# Altium integrated library Altera Classic EPLD.IntLib: 71 symbols (part 1 of 2)
Pins are listed as number, name and electrical type; pins without a type are passive.

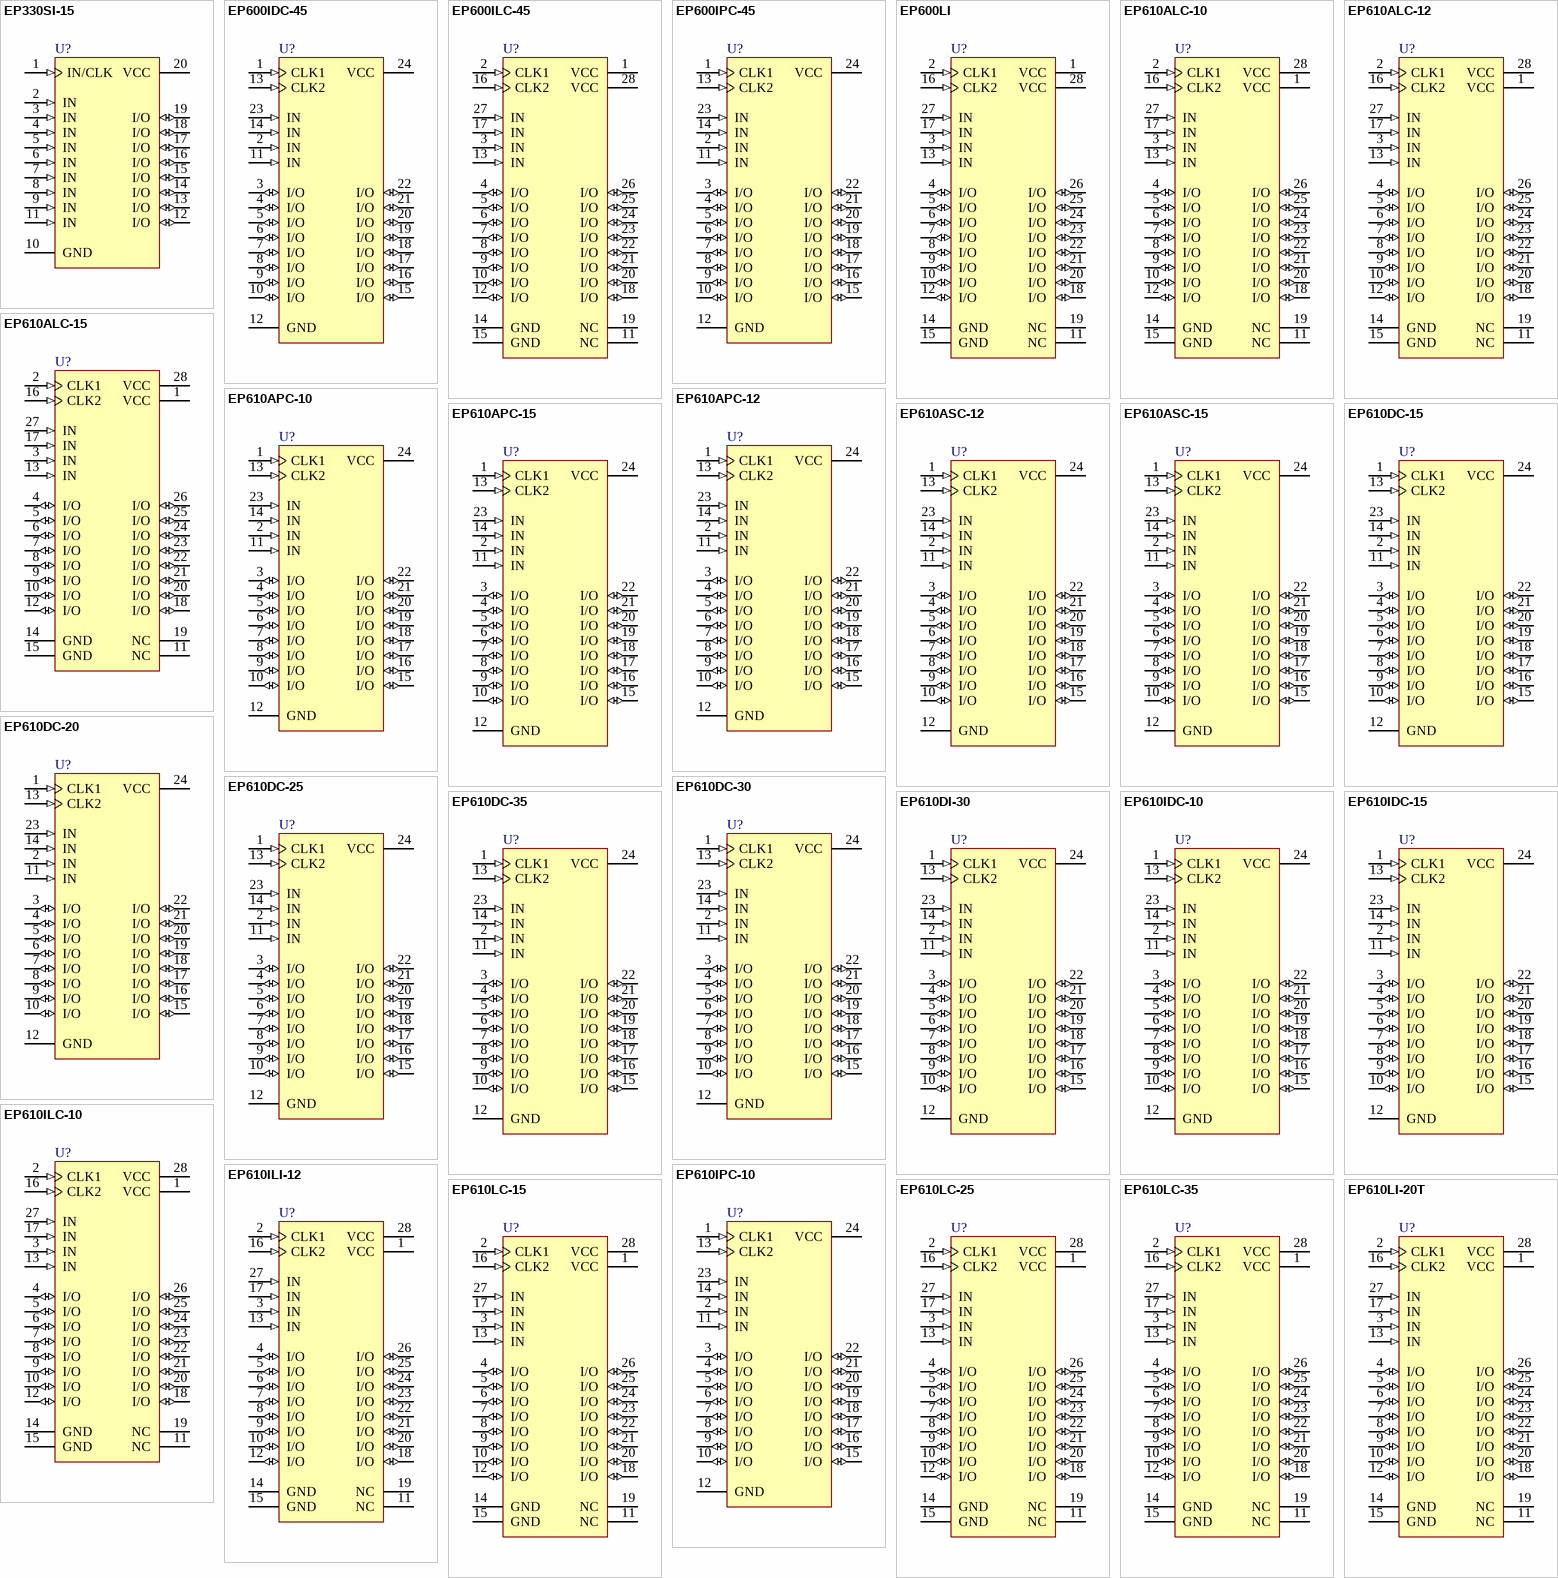
[diagram p0: symbols EP330SI-15 to EP610LI-20T]

## EP330SI-15
designator U?
EP330 5.0V Classic EPLD, 8-Macrocells, 20-Pin SOIC, Speed Grade 15, Industrial Grade; Published: 24-Nov-2000; LatestRevisionDate: 13-Apr-2006; LatestRevisionNote: IPC-7351 Footprint Added.; DatasheetVersion: Sep-1991; PackageVersion: ver6, Jun-1996; PackageReference: SOIC20; Publisher: Altium Limited; PackageDescription: 20-Pin Small Outline Integrated Circuit (SOIC20); Code_JEDEC: MS-013-AC; Code_IPC: SOIC127P1030-20; ComponentLink1Description: Manufacturer Link; ComponentLink1URL: http://www.altera.com/products/devices/classic/cls-index.html
footprint SOIC20_N (SOIC, 20-Leads, Body 12.8x7.5mm, Pitch 1.27mm, IPC Medium Density)
footprint SOIC20_L (SOIC, 20-Leads, Body 12.8x7.5mm, Pitch 1.27mm, IPC High Density)
footprint SOIC20_M (SOIC, 20-Leads, Body 12.8x7.5mm, Pitch 1.27mm, IPC Low Density)
3D model SOIC20 (20-Pin Small Outline Integrated Circuit (SOIC20))
pins: 1 IN/CLK (in), 2 IN (in), 3 IN (in), 4 IN (in), 5 IN (in), 6 IN (in), 7 IN (in), 8 IN (in), 9 IN (in), 10 GND (power), 11 IN (in), 12 I/O (io), 13 I/O (io), 14 I/O (io), 15 I/O (io), 16 I/O (io), 17 I/O (io), 18 I/O (io), 19 I/O (io), 20 VCC (power)

## EP600IDC-45
designator U?
EP600I 5.0V Classic EPLD, 16-Macrocells, 24-Pin CerDIP, Speed Grade 45, Commercial Grade; Published: 24-Nov-2000; LatestRevisionDate: 04-Mar-2005; LatestRevisionNote: Stylized 3D Model Added.; DatasheetVersion: Mar-1995; PackageVersion: ver14.2, Oct-2005; PackageReference: CerDIP24; Publisher: Altium Limited; PackageDescription: 24-Pin Ceramic Dual In-Line Package (CerDIP); Code_JEDEC: MS-030-AF; ComponentLink1Description: Manufacturer Link; ComponentLink1URL: http://www.altera.com/products/devices/classic/cls-index.html
footprint CerDIP24 (DIP, 24-Leads, Row Spacing 7.62mm, Pitch 2.54mm, Body 32x7.49mm)
3D model PDIP24 (24-Pin Ceramic Dual In-Line Package (CerDIP))
pins: 1 CLK1 (in), 2 IN (in), 3 I/O (io), 4 I/O (io), 5 I/O (io), 6 I/O (io), 7 I/O (io), 8 I/O (io), 9 I/O (io), 10 I/O (io), 11 IN (in), 12 GND (power), 13 CLK2 (in), 14 IN (in), 15 I/O (io), 16 I/O (io), 17 I/O (io), 18 I/O (io), 19 I/O (io), 20 I/O (io), 21 I/O (io), 22 I/O (io), 23 IN (in), 24 VCC (power)

## EP600ILC-45
designator U?
EP600I 5.0V Classic EPLD, 16-Macrocells, 28-Pin PLCC, Speed Grade 45, Commercial Grade; Published: 24-Nov-2000; LatestRevisionDate: 13-Apr-2006; LatestRevisionNote: IPC-7351 Footprint Added.; DatasheetVersion: Mar-1995; PackageVersion: ver14.2, Oct-2005; PackageReference: PLCC28; Publisher: Altium Limited; PackageDescription: 28-Pin Plastic J-Lead Chip Carrier (PLCC28); Code_JEDEC: MS-018-AB; ComponentLink1Description: Manufacturer Link; ComponentLink1URL: http://www.altera.com/products/devices/classic/cls-index.html
footprint PLCC28_N (Leaded Chip Carrier, 28-Leads, Body 11.5x11.5mm, Pitch 1.27mm, IPC Medium Density)
footprint PLCC28_L (Leaded Chip Carrier, 28-Leads, Body 11.5x11.5mm, Pitch 1.27mm, IPC High Density)
footprint PLCC28_M (Leaded Chip Carrier, 28-Leads, Body 11.5x11.5mm, Pitch 1.27mm, IPC Low Density)
3D model EP600I-PLCC28 (28-Pin Plastic J-Lead Chip Carrier (PLCC28))
pins: 1 VCC (power), 2 CLK1 (in), 3 IN (in), 4 I/O (io), 5 I/O (io), 6 I/O (io), 7 I/O (io), 8 I/O (io), 9 I/O (io), 10 I/O (io), 11 NC, 12 I/O (io), 13 IN (in), 14 GND (power), 15 GND (power), 16 CLK2 (in), 17 IN (in), 18 I/O (io), 19 NC, 20 I/O (io), 21 I/O (io), 22 I/O (io), 23 I/O (io), 24 I/O (io), 25 I/O (io), 26 I/O (io), 27 IN (in), 28 VCC (power)

## EP600IPC-45
designator U?
EP600I 5.0V Classic EPLD, 16-Macrocells, 24-Pin PDIP, Speed Grade 45, Commercial Grade; Published: 24-Nov-2000; LatestRevisionDate: 04-Mar-2005; LatestRevisionNote: Stylized 3D Model Added.; DatasheetVersion: Mar-1995; PackageVersion: ver14.2, Oct-2005; PackageReference: PDIP24; Publisher: Altium Limited; PackageDescription: 24-Pin Plastic Dual In-Line Package (PDIP); Code_JEDEC: MS-001-AF; ComponentLink1Description: Manufacturer Link; ComponentLink1URL: http://www.altera.com/products/devices/classic/cls-index.html
footprint PDIP24 (DIP, 24-Leads, Row Spacing 7.62mm, Pitch 2.54mm, Body 30.21x6.54mm)
3D model PDIP24 (24-Pin Plastic Dual In-Line Package (PDIP))
pins: 1 CLK1 (in), 2 IN (in), 3 I/O (io), 4 I/O (io), 5 I/O (io), 6 I/O (io), 7 I/O (io), 8 I/O (io), 9 I/O (io), 10 I/O (io), 11 IN (in), 12 GND (power), 13 CLK2 (in), 14 IN (in), 15 I/O (io), 16 I/O (io), 17 I/O (io), 18 I/O (io), 19 I/O (io), 20 I/O (io), 21 I/O (io), 22 I/O (io), 23 IN (in), 24 VCC (power)

## EP600LI
designator U?
EP600 5.0V Classic EPLD, 16-Macrocells, 28-Pin PLCC, Speed Grade Standard, Industrial Grade; Published: 24-Nov-2000; LatestRevisionDate: 13-Apr-2006; LatestRevisionNote: IPC-7351 Footprint Added.; DatasheetVersion: Sep-1988; PackageVersion: ver14.2, Oct-2005; PackageReference: PLCC28; Publisher: Altium Limited; PackageDescription: 28-Pin Plastic J-Lead Chip Carrier (PLCC28); Code_JEDEC: MS-018-AB; ComponentLink1Description: Manufacturer Link; ComponentLink1URL: http://www.altera.com/products/devices/classic/cls-index.html
footprint PLCC28_N (Leaded Chip Carrier, 28-Leads, Body 11.5x11.5mm, Pitch 1.27mm, IPC Medium Density)
footprint PLCC28_L (Leaded Chip Carrier, 28-Leads, Body 11.5x11.5mm, Pitch 1.27mm, IPC High Density)
footprint PLCC28_M (Leaded Chip Carrier, 28-Leads, Body 11.5x11.5mm, Pitch 1.27mm, IPC Low Density)
3D model EP600-PLCC28 (28-Pin Plastic J-Lead Chip Carrier (PLCC28))
pins: 1 VCC (power), 2 CLK1 (in), 3 IN (in), 4 I/O (io), 5 I/O (io), 6 I/O (io), 7 I/O (io), 8 I/O (io), 9 I/O (io), 10 I/O (io), 11 NC, 12 I/O (io), 13 IN (in), 14 GND (power), 15 GND (power), 16 CLK2 (in), 17 IN (in), 18 I/O (io), 19 NC, 20 I/O (io), 21 I/O (io), 22 I/O (io), 23 I/O (io), 24 I/O (io), 25 I/O (io), 26 I/O (io), 27 IN (in), 28 VCC (power)

## EP610ALC-10
designator U?
EP610A 5.0V Classic EPLD, 16-Macrocells, 28-Pin PLCC, Speed Grade 10, Commercial Grade; Published: 24-Nov-2000; LatestRevisionDate: 13-Apr-2006; LatestRevisionNote: IPC-7351 Footprint Added.; DatasheetVersion: Mar-1993; PackageVersion: ver14.2, Oct-2005; PackageReference: PLCC28; Publisher: Altium Limited; PackageDescription: 28-Pin Plastic J-Lead Chip Carrier (PLCC28); Code_JEDEC: MS-018-AB; ComponentLink1Description: Manufacturer Link; ComponentLink1URL: http://www.altera.com/products/devices/classic/cls-index.html
footprint PLCC28_N (Leaded Chip Carrier, 28-Leads, Body 11.5x11.5mm, Pitch 1.27mm, IPC Medium Density)
footprint PLCC28_L (Leaded Chip Carrier, 28-Leads, Body 11.5x11.5mm, Pitch 1.27mm, IPC High Density)
footprint PLCC28_M (Leaded Chip Carrier, 28-Leads, Body 11.5x11.5mm, Pitch 1.27mm, IPC Low Density)
3D model EP610A-PLCC28 (28-Pin Plastic J-Lead Chip Carrier (PLCC28))
pins: 1 VCC (power), 2 CLK1 (in), 3 IN (in), 4 I/O (io), 5 I/O (io), 6 I/O (io), 7 I/O (io), 8 I/O (io), 9 I/O (io), 10 I/O (io), 11 NC, 12 I/O (io), 13 IN (in), 14 GND (power), 15 GND (power), 16 CLK2 (in), 17 IN (in), 18 I/O (io), 19 NC, 20 I/O (io), 21 I/O (io), 22 I/O (io), 23 I/O (io), 24 I/O (io), 25 I/O (io), 26 I/O (io), 27 IN (in), 28 VCC (power)

## EP610ALC-12
designator U?
EP610A 5.0V Classic EPLD, 16-Macrocells, 28-Pin PLCC, Speed Grade 12, Commercial Grade; Published: 24-Nov-2000; LatestRevisionDate: 13-Apr-2006; LatestRevisionNote: IPC-7351 Footprint Added.; DatasheetVersion: Mar-1993; PackageVersion: ver14.2, Oct-2005; PackageReference: PLCC28; Publisher: Altium Limited; PackageDescription: 28-Pin Plastic J-Lead Chip Carrier (PLCC28); Code_JEDEC: MS-018-AB; ComponentLink1Description: Manufacturer Link; ComponentLink1URL: http://www.altera.com/products/devices/classic/cls-index.html
footprint PLCC28_N (Leaded Chip Carrier, 28-Leads, Body 11.5x11.5mm, Pitch 1.27mm, IPC Medium Density)
footprint PLCC28_L (Leaded Chip Carrier, 28-Leads, Body 11.5x11.5mm, Pitch 1.27mm, IPC High Density)
footprint PLCC28_M (Leaded Chip Carrier, 28-Leads, Body 11.5x11.5mm, Pitch 1.27mm, IPC Low Density)
3D model EP610A-PLCC28 (28-Pin Plastic J-Lead Chip Carrier (PLCC28))
pins: 1 VCC (power), 2 CLK1 (in), 3 IN (in), 4 I/O (io), 5 I/O (io), 6 I/O (io), 7 I/O (io), 8 I/O (io), 9 I/O (io), 10 I/O (io), 11 NC, 12 I/O (io), 13 IN (in), 14 GND (power), 15 GND (power), 16 CLK2 (in), 17 IN (in), 18 I/O (io), 19 NC, 20 I/O (io), 21 I/O (io), 22 I/O (io), 23 I/O (io), 24 I/O (io), 25 I/O (io), 26 I/O (io), 27 IN (in), 28 VCC (power)

## EP610ALC-15
designator U?
EP610A 5.0V Classic EPLD, 16-Macrocells, 28-Pin PLCC, Speed Grade 15, Commercial Grade; Published: 24-Nov-2000; LatestRevisionDate: 13-Apr-2006; LatestRevisionNote: IPC-7351 Footprint Added.; DatasheetVersion: Mar-1993; PackageVersion: ver14.2, Oct-2005; PackageReference: PLCC28; Publisher: Altium Limited; PackageDescription: 28-Pin Plastic J-Lead Chip Carrier (PLCC28); Code_JEDEC: MS-018-AB; ComponentLink1Description: Manufacturer Link; ComponentLink1URL: http://www.altera.com/products/devices/classic/cls-index.html
footprint PLCC28_N (Leaded Chip Carrier, 28-Leads, Body 11.5x11.5mm, Pitch 1.27mm, IPC Medium Density)
footprint PLCC28_L (Leaded Chip Carrier, 28-Leads, Body 11.5x11.5mm, Pitch 1.27mm, IPC High Density)
footprint PLCC28_M (Leaded Chip Carrier, 28-Leads, Body 11.5x11.5mm, Pitch 1.27mm, IPC Low Density)
3D model EP610A-PLCC28 (28-Pin Plastic J-Lead Chip Carrier (PLCC28))
pins: 1 VCC (power), 2 CLK1 (in), 3 IN (in), 4 I/O (io), 5 I/O (io), 6 I/O (io), 7 I/O (io), 8 I/O (io), 9 I/O (io), 10 I/O (io), 11 NC, 12 I/O (io), 13 IN (in), 14 GND (power), 15 GND (power), 16 CLK2 (in), 17 IN (in), 18 I/O (io), 19 NC, 20 I/O (io), 21 I/O (io), 22 I/O (io), 23 I/O (io), 24 I/O (io), 25 I/O (io), 26 I/O (io), 27 IN (in), 28 VCC (power)

## EP610APC-10
designator U?
EP610A 5.0V Classic EPLD, 16-Macrocells, 24-Pin PDIP, Speed Grade 10, Commercial Grade; Published: 24-Nov-2000; LatestRevisionDate: 04-Mar-2005; LatestRevisionNote: Stylized 3D Model Added.; DatasheetVersion: Mar-1993; PackageVersion: ver14.2, Oct-2005; PackageReference: PDIP24; Publisher: Altium Limited; PackageDescription: 24-Pin Plastic Dual In-Line Package (PDIP); Code_JEDEC: MS-001-AF; ComponentLink1Description: Manufacturer Link; ComponentLink1URL: http://www.altera.com/products/devices/classic/cls-index.html
footprint PDIP24 (DIP, 24-Leads, Row Spacing 7.62mm, Pitch 2.54mm, Body 30.21x6.54mm)
3D model PDIP24 (24-Pin Plastic Dual In-Line Package (PDIP))
pins: 1 CLK1 (in), 2 IN (in), 3 I/O (io), 4 I/O (io), 5 I/O (io), 6 I/O (io), 7 I/O (io), 8 I/O (io), 9 I/O (io), 10 I/O (io), 11 IN (in), 12 GND (power), 13 CLK2 (in), 14 IN (in), 15 I/O (io), 16 I/O (io), 17 I/O (io), 18 I/O (io), 19 I/O (io), 20 I/O (io), 21 I/O (io), 22 I/O (io), 23 IN (in), 24 VCC (power)

## EP610APC-12
designator U?
EP610A 5.0V Classic EPLD, 16-Macrocells, 24-Pin PDIP, Speed Grade 12, Commercial Grade; Published: 24-Nov-2000; LatestRevisionDate: 04-Mar-2005; LatestRevisionNote: Stylized 3D Model Added.; DatasheetVersion: Mar-1993; PackageVersion: ver14.2, Oct-2005; PackageReference: PDIP24; Publisher: Altium Limited; PackageDescription: 24-Pin Plastic Dual In-Line Package (PDIP); Code_JEDEC: MS-001-AF; ComponentLink1Description: Manufacturer Link; ComponentLink1URL: http://www.altera.com/products/devices/classic/cls-index.html
footprint PDIP24 (DIP, 24-Leads, Row Spacing 7.62mm, Pitch 2.54mm, Body 30.21x6.54mm)
3D model PDIP24 (24-Pin Plastic Dual In-Line Package (PDIP))
pins: 1 CLK1 (in), 2 IN (in), 3 I/O (io), 4 I/O (io), 5 I/O (io), 6 I/O (io), 7 I/O (io), 8 I/O (io), 9 I/O (io), 10 I/O (io), 11 IN (in), 12 GND (power), 13 CLK2 (in), 14 IN (in), 15 I/O (io), 16 I/O (io), 17 I/O (io), 18 I/O (io), 19 I/O (io), 20 I/O (io), 21 I/O (io), 22 I/O (io), 23 IN (in), 24 VCC (power)

## EP610APC-15
designator U?
EP610A 5.0V Classic EPLD, 16-Macrocells, 24-Pin PDIP, Speed Grade 15, Commercial Grade; Published: 24-Nov-2000; LatestRevisionDate: 04-Mar-2005; LatestRevisionNote: Stylized 3D Model Added.; DatasheetVersion: Mar-1993; PackageVersion: ver14.2, Oct-2005; PackageReference: PDIP24; Publisher: Altium Limited; PackageDescription: 24-Pin Plastic Dual In-Line Package (PDIP); Code_JEDEC: MS-001-AF; ComponentLink1Description: Manufacturer Link; ComponentLink1URL: http://www.altera.com/products/devices/classic/cls-index.html
footprint PDIP24 (DIP, 24-Leads, Row Spacing 7.62mm, Pitch 2.54mm, Body 30.21x6.54mm)
3D model PDIP24 (24-Pin Plastic Dual In-Line Package (PDIP))
pins: 1 CLK1 (in), 2 IN (in), 3 I/O (io), 4 I/O (io), 5 I/O (io), 6 I/O (io), 7 I/O (io), 8 I/O (io), 9 I/O (io), 10 I/O (io), 11 IN (in), 12 GND (power), 13 CLK2 (in), 14 IN (in), 15 I/O (io), 16 I/O (io), 17 I/O (io), 18 I/O (io), 19 I/O (io), 20 I/O (io), 21 I/O (io), 22 I/O (io), 23 IN (in), 24 VCC (power)

## EP610ASC-12
designator U?
EP610A 5.0V Classic EPLD, 16-Macrocells, 24-Pin SOIC, Speed Grade 12, Commercial Grade; Published: 24-Nov-2000; LatestRevisionDate: 13-Apr-2006; LatestRevisionNote: IPC-7351 Footprint Added.; DatasheetVersion: Mar-1993; PackageVersion: ver14.2, Oct-2005; PackageReference: SOIC24; Publisher: Altium Limited; PackageDescription: 24-Pin Small Outline Integrated Circuit Package (SOIC24); Code_JEDEC: MS-013-AD; ComponentLink1Description: Manufacturer Link; ComponentLink1URL: http://www.altera.com/products/devices/classic/cls-index.html
footprint SOIC24_N (SOIC, 24-Leads, Body 15.4x7.5mm, Pitch 1.27mm, IPC Medium Density)
footprint SOIC24_L (SOIC, 24-Leads, Body 15.4x7.5mm, Pitch 1.27mm, IPC High Density)
footprint SOIC24_M (SOIC, 24-Leads, Body 15.4x7.5mm, Pitch 1.27mm, IPC Low Density)
3D model SOIC24 (24-Pin Small Outline Integrated Circuit Package (SOIC24))
pins: 1 CLK1 (in), 2 IN (in), 3 I/O (io), 4 I/O (io), 5 I/O (io), 6 I/O (io), 7 I/O (io), 8 I/O (io), 9 I/O (io), 10 I/O (io), 11 IN (in), 12 GND (power), 13 CLK2 (in), 14 IN (in), 15 I/O (io), 16 I/O (io), 17 I/O (io), 18 I/O (io), 19 I/O (io), 20 I/O (io), 21 I/O (io), 22 I/O (io), 23 IN (in), 24 VCC (power)

## EP610ASC-15
designator U?
EP610A 5.0V Classic EPLD, 16-Macrocells, 24-Pin SOIC, Speed Grade 15, Commercial Grade; Published: 24-Nov-2000; LatestRevisionDate: 13-Apr-2006; LatestRevisionNote: IPC-7351 Footprint Added.; DatasheetVersion: Mar-1993; PackageVersion: ver14.2, Oct-2005; PackageReference: SOIC24; Publisher: Altium Limited; PackageDescription: 24-Pin Small Outline Integrated Circuit Package (SOIC24); Code_JEDEC: MS-013-AD; ComponentLink1Description: Manufacturer Link; ComponentLink1URL: http://www.altera.com/products/devices/classic/cls-index.html
footprint SOIC24_N (SOIC, 24-Leads, Body 15.4x7.5mm, Pitch 1.27mm, IPC Medium Density)
footprint SOIC24_L (SOIC, 24-Leads, Body 15.4x7.5mm, Pitch 1.27mm, IPC High Density)
footprint SOIC24_M (SOIC, 24-Leads, Body 15.4x7.5mm, Pitch 1.27mm, IPC Low Density)
3D model SOIC24 (24-Pin Small Outline Integrated Circuit Package (SOIC24))
pins: 1 CLK1 (in), 2 IN (in), 3 I/O (io), 4 I/O (io), 5 I/O (io), 6 I/O (io), 7 I/O (io), 8 I/O (io), 9 I/O (io), 10 I/O (io), 11 IN (in), 12 GND (power), 13 CLK2 (in), 14 IN (in), 15 I/O (io), 16 I/O (io), 17 I/O (io), 18 I/O (io), 19 I/O (io), 20 I/O (io), 21 I/O (io), 22 I/O (io), 23 IN (in), 24 VCC (power)

## EP610DC-15
designator U?
EP610 5.0V Classic EPLD, 16-Macrocells, 24-Pin CerDIP, Speed Grade 15, Commercial Grade; Published: 24-Nov-2000; LatestRevisionDate: 04-Mar-2005; LatestRevisionNote: Stylized 3D Model Added.; DatasheetVersion: Sep-1991; PackageVersion: ver14.2, Oct-2005; PackageReference: CerDIP24; Publisher: Altium Limited; PackageDescription: 24-Pin Ceramic Dual In-Line Package (CerDIP); Code_JEDEC: MS-030-AF; ComponentLink1Description: Manufacturer Link; ComponentLink1URL: http://www.altera.com/products/devices/classic/cls-index.html; ComponentLink2Description: Datasheet; ComponentLink2URL: http://www.altera.com/literature/ds/classic.pdf
footprint CerDIP24 (DIP, 24-Leads, Row Spacing 7.62mm, Pitch 2.54mm, Body 32x7.49mm)
3D model PDIP24 (24-Pin Ceramic Dual In-Line Package (CerDIP))
pins: 1 CLK1 (in), 2 IN (in), 3 I/O (io), 4 I/O (io), 5 I/O (io), 6 I/O (io), 7 I/O (io), 8 I/O (io), 9 I/O (io), 10 I/O (io), 11 IN (in), 12 GND (power), 13 CLK2 (in), 14 IN (in), 15 I/O (io), 16 I/O (io), 17 I/O (io), 18 I/O (io), 19 I/O (io), 20 I/O (io), 21 I/O (io), 22 I/O (io), 23 IN (in), 24 VCC (power)

## EP610DC-20
designator U?
EP610 5.0V Classic EPLD, 16-Macrocells, 24-Pin CerDIP, Speed Grade 20, Commercial Grade; Published: 24-Nov-2000; LatestRevisionDate: 04-Mar-2005; LatestRevisionNote: Stylized 3D Model Added.; DatasheetVersion: Sep-1991; PackageVersion: ver14.2, Oct-2005; PackageReference: CerDIP24; Publisher: Altium Limited; PackageDescription: 24-Pin Ceramic Dual In-Line Package (CerDIP); Code_JEDEC: MS-030-AF; ComponentLink1Description: Manufacturer Link; ComponentLink1URL: http://www.altera.com/products/devices/classic/cls-index.html; ComponentLink2Description: Datasheet; ComponentLink2URL: http://www.altera.com/literature/ds/classic.pdf
footprint CerDIP24 (DIP, 24-Leads, Row Spacing 7.62mm, Pitch 2.54mm, Body 32x7.49mm)
3D model PDIP24 (24-Pin Ceramic Dual In-Line Package (CerDIP))
pins: 1 CLK1 (in), 2 IN (in), 3 I/O (io), 4 I/O (io), 5 I/O (io), 6 I/O (io), 7 I/O (io), 8 I/O (io), 9 I/O (io), 10 I/O (io), 11 IN (in), 12 GND (power), 13 CLK2 (in), 14 IN (in), 15 I/O (io), 16 I/O (io), 17 I/O (io), 18 I/O (io), 19 I/O (io), 20 I/O (io), 21 I/O (io), 22 I/O (io), 23 IN (in), 24 VCC (power)

## EP610DC-25
designator U?
EP610 5.0V Classic EPLD, 16-Macrocells, 24-Pin CerDIP, Speed Grade 25, Commercial Grade; Published: 24-Nov-2000; LatestRevisionDate: 04-Mar-2005; LatestRevisionNote: Stylized 3D Model Added.; DatasheetVersion: May-1999; PackageVersion: ver14.2, Oct-2005; PackageReference: CerDIP24; Publisher: Altium Limited; PackageDescription: 24-Pin Ceramic Dual In-Line Package (CerDIP); Code_JEDEC: MS-030-AF; ComponentLink1Description: Manufacturer Link; ComponentLink1URL: http://www.altera.com/products/devices/classic/cls-index.html; ComponentLink2Description: Datasheet; ComponentLink2URL: http://www.altera.com/literature/ds/classic.pdf
footprint CerDIP24 (DIP, 24-Leads, Row Spacing 7.62mm, Pitch 2.54mm, Body 32x7.49mm)
3D model PDIP24 (24-Pin Ceramic Dual In-Line Package (CerDIP))
pins: 1 CLK1 (in), 2 IN (in), 3 I/O (io), 4 I/O (io), 5 I/O (io), 6 I/O (io), 7 I/O (io), 8 I/O (io), 9 I/O (io), 10 I/O (io), 11 IN (in), 12 GND (power), 13 CLK2 (in), 14 IN (in), 15 I/O (io), 16 I/O (io), 17 I/O (io), 18 I/O (io), 19 I/O (io), 20 I/O (io), 21 I/O (io), 22 I/O (io), 23 IN (in), 24 VCC (power)

## EP610DC-30
designator U?
EP610 5.0V Classic EPLD, 16-Macrocells, 24-Pin CerDIP, Speed Grade 30, Commercial Grade; Published: 24-Nov-2000; LatestRevisionDate: 04-Mar-2005; LatestRevisionNote: Stylized 3D Model Added.; DatasheetVersion: May-1999; PackageVersion: ver14.2, Oct-2005; PackageReference: CerDIP24; Publisher: Altium Limited; PackageDescription: 24-Pin Ceramic Dual In-Line Package (CerDIP); Code_JEDEC: MS-030-AF; ComponentLink1Description: Manufacturer Link; ComponentLink1URL: http://www.altera.com/products/devices/classic/cls-index.html; ComponentLink2Description: Datasheet; ComponentLink2URL: http://www.altera.com/literature/ds/classic.pdf
footprint CerDIP24 (DIP, 24-Leads, Row Spacing 7.62mm, Pitch 2.54mm, Body 32x7.49mm)
3D model PDIP24 (24-Pin Ceramic Dual In-Line Package (CerDIP))
pins: 1 CLK1 (in), 2 IN (in), 3 I/O (io), 4 I/O (io), 5 I/O (io), 6 I/O (io), 7 I/O (io), 8 I/O (io), 9 I/O (io), 10 I/O (io), 11 IN (in), 12 GND (power), 13 CLK2 (in), 14 IN (in), 15 I/O (io), 16 I/O (io), 17 I/O (io), 18 I/O (io), 19 I/O (io), 20 I/O (io), 21 I/O (io), 22 I/O (io), 23 IN (in), 24 VCC (power)

## EP610DC-35
designator U?
EP610 5.0V Classic EPLD, 16-Macrocells, 24-Pin CerDIP, Speed Grade 35, Commercial Grade; Published: 24-Nov-2000; LatestRevisionDate: 04-Mar-2005; LatestRevisionNote: Stylized 3D Model Added.; DatasheetVersion: May-1999; PackageVersion: ver14.2, Oct-2005; PackageReference: CerDIP24; Publisher: Altium Limited; PackageDescription: 24-Pin Ceramic Dual In-Line Package (CerDIP); Supplier 1: Farnell; Supplier Part Number 1: 2215305; Code_JEDEC: MS-030-AF; ComponentLink1Description: Manufacturer Link; ComponentLink1URL: http://www.altera.com/products/devices/classic/cls-index.html; ComponentLink2Description: Datasheet; ComponentLink2URL: http://www.altera.com/literature/ds/classic.pdf
footprint CerDIP24 (DIP, 24-Leads, Row Spacing 7.62mm, Pitch 2.54mm, Body 32x7.49mm)
3D model PDIP24 (24-Pin Ceramic Dual In-Line Package (CerDIP))
pins: 1 CLK1 (in), 2 IN (in), 3 I/O (io), 4 I/O (io), 5 I/O (io), 6 I/O (io), 7 I/O (io), 8 I/O (io), 9 I/O (io), 10 I/O (io), 11 IN (in), 12 GND (power), 13 CLK2 (in), 14 IN (in), 15 I/O (io), 16 I/O (io), 17 I/O (io), 18 I/O (io), 19 I/O (io), 20 I/O (io), 21 I/O (io), 22 I/O (io), 23 IN (in), 24 VCC (power)

## EP610DI-30
designator U?
EP610 5.0V Classic EPLD, 16-Macrocells, 24-Pin CerDIP, Speed Grade 30, Industrial Grade; Published: 24-Nov-2000; LatestRevisionDate: 04-Mar-2005; LatestRevisionNote: Stylized 3D Model Added.; DatasheetVersion: May-1999; PackageVersion: ver14.2, Oct-2005; PackageReference: CerDIP24; Publisher: Altium Limited; PackageDescription: 24-Pin Ceramic Dual In-Line Package (CerDIP); Code_JEDEC: MS-030-AF; ComponentLink1Description: Manufacturer Link; ComponentLink1URL: http://www.altera.com/products/devices/classic/cls-index.html; ComponentLink2Description: Datasheet; ComponentLink2URL: http://www.altera.com/literature/ds/classic.pdf
footprint CerDIP24 (DIP, 24-Leads, Row Spacing 7.62mm, Pitch 2.54mm, Body 32x7.49mm)
3D model PDIP24 (24-Pin Ceramic Dual In-Line Package (CerDIP))
pins: 1 CLK1 (in), 2 IN (in), 3 I/O (io), 4 I/O (io), 5 I/O (io), 6 I/O (io), 7 I/O (io), 8 I/O (io), 9 I/O (io), 10 I/O (io), 11 IN (in), 12 GND (power), 13 CLK2 (in), 14 IN (in), 15 I/O (io), 16 I/O (io), 17 I/O (io), 18 I/O (io), 19 I/O (io), 20 I/O (io), 21 I/O (io), 22 I/O (io), 23 IN (in), 24 VCC (power)

## EP610IDC-10
designator U?
EP610I 5.0V Classic EPLD, 16-Macrocells, 24-Pin CerDIP, Speed Grade 10, Commercial Grade; Published: 24-Nov-2000; LatestRevisionDate: 04-Mar-2005; LatestRevisionNote: Stylized 3D Model Added.; DatasheetVersion: May-1999; PackageVersion: ver14.2, Oct-2005; PackageReference: CerDIP24; Publisher: Altium Limited; PackageDescription: 24-Pin Ceramic Dual In-Line Package (CerDIP); Code_JEDEC: MS-030-AF; ComponentLink1Description: Manufacturer Link; ComponentLink1URL: http://www.altera.com/products/devices/classic/cls-index.html; ComponentLink2Description: Datasheet; ComponentLink2URL: http://www.altera.com/literature/ds/classic.pdf
footprint CerDIP24 (DIP, 24-Leads, Row Spacing 7.62mm, Pitch 2.54mm, Body 32x7.49mm)
3D model PDIP24 (24-Pin Ceramic Dual In-Line Package (CerDIP))
pins: 1 CLK1 (in), 2 IN (in), 3 I/O (io), 4 I/O (io), 5 I/O (io), 6 I/O (io), 7 I/O (io), 8 I/O (io), 9 I/O (io), 10 I/O (io), 11 IN (in), 12 GND (power), 13 CLK2 (in), 14 IN (in), 15 I/O (io), 16 I/O (io), 17 I/O (io), 18 I/O (io), 19 I/O (io), 20 I/O (io), 21 I/O (io), 22 I/O (io), 23 IN (in), 24 VCC (power)

## EP610IDC-15
designator U?
EP610I 5.0V Classic EPLD, 16-Macrocells, 24-Pin CerDIP, Speed Grade 15, Commercial Grade; Published: 24-Nov-2000; LatestRevisionDate: 04-Mar-2005; LatestRevisionNote: Stylized 3D Model Added.; DatasheetVersion: May-1999; PackageVersion: ver14.2, Oct-2005; PackageReference: CerDIP24; Publisher: Altium Limited; PackageDescription: 24-Pin Ceramic Dual In-Line Package (CerDIP); Code_JEDEC: MS-030-AF; ComponentLink1Description: Manufacturer Link; ComponentLink1URL: http://www.altera.com/products/devices/classic/cls-index.html; ComponentLink2Description: Datasheet; ComponentLink2URL: http://www.altera.com/literature/ds/classic.pdf
footprint CerDIP24 (DIP, 24-Leads, Row Spacing 7.62mm, Pitch 2.54mm, Body 32x7.49mm)
3D model PDIP24 (24-Pin Ceramic Dual In-Line Package (CerDIP))
pins: 1 CLK1 (in), 2 IN (in), 3 I/O (io), 4 I/O (io), 5 I/O (io), 6 I/O (io), 7 I/O (io), 8 I/O (io), 9 I/O (io), 10 I/O (io), 11 IN (in), 12 GND (power), 13 CLK2 (in), 14 IN (in), 15 I/O (io), 16 I/O (io), 17 I/O (io), 18 I/O (io), 19 I/O (io), 20 I/O (io), 21 I/O (io), 22 I/O (io), 23 IN (in), 24 VCC (power)

## EP610ILC-10
designator U?
EP610I 5.0V Classic EPLD, 16-Macrocells, 28-Pin PLCC, Speed Grade 10, Commercial Grade; Published: 24-Nov-2000; LatestRevisionDate: 13-Apr-2006; LatestRevisionNote: IPC-7351 Footprint Added.; DatasheetVersion: May-1999; PackageVersion: ver14.2, Oct-2005; PackageReference: PLCC28; Publisher: Altium Limited; PackageDescription: 28-Pin Plastic J-Lead Chip Carrier (PLCC28); Code_JEDEC: MS-018-AB; ComponentLink1Description: Manufacturer Link; ComponentLink1URL: http://www.altera.com/products/devices/classic/cls-index.html; ComponentLink2Description: Datasheet; ComponentLink2URL: http://www.altera.com/literature/ds/classic.pdf
footprint PLCC28_N (Leaded Chip Carrier, 28-Leads, Body 11.5x11.5mm, Pitch 1.27mm, IPC Medium Density)
footprint PLCC28_L (Leaded Chip Carrier, 28-Leads, Body 11.5x11.5mm, Pitch 1.27mm, IPC High Density)
footprint PLCC28_M (Leaded Chip Carrier, 28-Leads, Body 11.5x11.5mm, Pitch 1.27mm, IPC Low Density)
3D model EP610I-PLCC28 (28-Pin Plastic J-Lead Chip Carrier (PLCC28))
pins: 1 VCC (power), 2 CLK1 (in), 3 IN (in), 4 I/O (io), 5 I/O (io), 6 I/O (io), 7 I/O (io), 8 I/O (io), 9 I/O (io), 10 I/O (io), 11 NC, 12 I/O (io), 13 IN (in), 14 GND (power), 15 GND (power), 16 CLK2 (in), 17 IN (in), 18 I/O (io), 19 NC, 20 I/O (io), 21 I/O (io), 22 I/O (io), 23 I/O (io), 24 I/O (io), 25 I/O (io), 26 I/O (io), 27 IN (in), 28 VCC (power)

## EP610ILI-12
designator U?
EP610I 5.0V Classic EPLD, 16-Macrocells, 28-Pin PLCC, Speed Grade 12, Industrial Grade; Published: 17-Jul-2002; LatestRevisionDate: 13-Apr-2006; LatestRevisionNote: IPC-7351 Footprint Added.; DatasheetVersion: May-1999; PackageVersion: ver14.2, Oct-2005; PackageReference: PLCC28; Publisher: Altium Limited; PackageDescription: 28-Pin Plastic J-Lead Chip Carrier (PLCC28); Code_JEDEC: MS-018-AB; ComponentLink1Description: Manufacturer Link; ComponentLink1URL: http://www.altera.com/products/devices/classic/cls-index.html; ComponentLink2Description: Datasheet; ComponentLink2URL: http://www.altera.com/literature/ds/classic.pdf
footprint PLCC28_N (Leaded Chip Carrier, 28-Leads, Body 11.5x11.5mm, Pitch 1.27mm, IPC Medium Density)
footprint PLCC28_L (Leaded Chip Carrier, 28-Leads, Body 11.5x11.5mm, Pitch 1.27mm, IPC High Density)
footprint PLCC28_M (Leaded Chip Carrier, 28-Leads, Body 11.5x11.5mm, Pitch 1.27mm, IPC Low Density)
3D model EP610I-PLCC28 (28-Pin Plastic J-Lead Chip Carrier (PLCC28))
pins: 1 VCC (power), 2 CLK1 (in), 3 IN (in), 4 I/O (io), 5 I/O (io), 6 I/O (io), 7 I/O (io), 8 I/O (io), 9 I/O (io), 10 I/O (io), 11 NC, 12 I/O (io), 13 IN (in), 14 GND (power), 15 GND (power), 16 CLK2 (in), 17 IN (in), 18 I/O (io), 19 NC, 20 I/O (io), 21 I/O (io), 22 I/O (io), 23 I/O (io), 24 I/O (io), 25 I/O (io), 26 I/O (io), 27 IN (in), 28 VCC (power)

## EP610IPC-10
designator U?
EP610I 5.0V Classic EPLD, 16-Macrocells, 24-Pin PDIP, Speed Grade 10, Commercial Grade; Published: 24-Nov-2000; LatestRevisionDate: 04-Mar-2005; LatestRevisionNote: Stylized 3D Model Added.; DatasheetVersion: May-1999; PackageVersion: ver14.2, Oct-2005; PackageReference: PDIP24; Publisher: Altium Limited; PackageDescription: 24-Pin Plastic Dual In-Line Package (PDIP); Code_JEDEC: MS-001-AF; ComponentLink1Description: Manufacturer Link; ComponentLink1URL: http://www.altera.com/products/devices/classic/cls-index.html
footprint PDIP24 (DIP, 24-Leads, Row Spacing 7.62mm, Pitch 2.54mm, Body 30.21x6.54mm)
3D model PDIP24 (24-Pin Plastic Dual In-Line Package (PDIP))
pins: 1 CLK1 (in), 2 IN (in), 3 I/O (io), 4 I/O (io), 5 I/O (io), 6 I/O (io), 7 I/O (io), 8 I/O (io), 9 I/O (io), 10 I/O (io), 11 IN (in), 12 GND (power), 13 CLK2 (in), 14 IN (in), 15 I/O (io), 16 I/O (io), 17 I/O (io), 18 I/O (io), 19 I/O (io), 20 I/O (io), 21 I/O (io), 22 I/O (io), 23 IN (in), 24 VCC (power)

## EP610LC-15
designator U?
EP610 5.0V Classic EPLD, 16-Macrocells, 28-Pin PLCC, Speed Grade 15, Commercial Grade; Published: 24-Nov-2000; LatestRevisionDate: 13-Apr-2006; LatestRevisionNote: IPC-7351 Footprint Added.; DatasheetVersion: May-1999; PackageVersion: ver14.2, Oct-2005; PackageReference: PLCC28; Publisher: Altium Limited; PackageDescription: 28-Pin Plastic J-Lead Chip Carrier (PLCC28); Code_JEDEC: MS-018-AB; ComponentLink1Description: Manufacturer Link; ComponentLink1URL: http://www.altera.com/products/devices/classic/cls-index.html; ComponentLink2Description: Datasheet; ComponentLink2URL: http://www.altera.com/literature/ds/classic.pdf
footprint PLCC28_N (Leaded Chip Carrier, 28-Leads, Body 11.5x11.5mm, Pitch 1.27mm, IPC Medium Density)
footprint PLCC28_L (Leaded Chip Carrier, 28-Leads, Body 11.5x11.5mm, Pitch 1.27mm, IPC High Density)
footprint PLCC28_M (Leaded Chip Carrier, 28-Leads, Body 11.5x11.5mm, Pitch 1.27mm, IPC Low Density)
3D model EP610-PLCC28 (28-Pin Plastic J-Lead Chip Carrier (PLCC28))
pins: 1 VCC (power), 2 CLK1 (in), 3 IN (in), 4 I/O (io), 5 I/O (io), 6 I/O (io), 7 I/O (io), 8 I/O (io), 9 I/O (io), 10 I/O (io), 11 NC, 12 I/O (io), 13 IN (in), 14 GND (power), 15 GND (power), 16 CLK2 (in), 17 IN (in), 18 I/O (io), 19 NC, 20 I/O (io), 21 I/O (io), 22 I/O (io), 23 I/O (io), 24 I/O (io), 25 I/O (io), 26 I/O (io), 27 IN (in), 28 VCC (power)

## EP610LC-25
designator U?
EP610 5.0V Classic EPLD, 16-Macrocells, 28-Pin PLCC, Speed Grade 25, Commercial Grade; Published: 24-Nov-2000; LatestRevisionDate: 13-Apr-2006; LatestRevisionNote: IPC-7351 Footprint Added.; DatasheetVersion: May-1999; PackageVersion: ver14.2, Oct-2005; PackageReference: PLCC28; Publisher: Altium Limited; PackageDescription: 28-Pin Plastic J-Lead Chip Carrier (PLCC28); Code_JEDEC: MS-018-AB; ComponentLink1Description: Manufacturer Link; ComponentLink1URL: http://www.altera.com/products/devices/classic/cls-index.html; ComponentLink2Description: Datasheet; ComponentLink2URL: http://www.altera.com/literature/ds/classic.pdf
footprint PLCC28_N (Leaded Chip Carrier, 28-Leads, Body 11.5x11.5mm, Pitch 1.27mm, IPC Medium Density)
footprint PLCC28_L (Leaded Chip Carrier, 28-Leads, Body 11.5x11.5mm, Pitch 1.27mm, IPC High Density)
footprint PLCC28_M (Leaded Chip Carrier, 28-Leads, Body 11.5x11.5mm, Pitch 1.27mm, IPC Low Density)
3D model EP610-PLCC28 (28-Pin Plastic J-Lead Chip Carrier (PLCC28))
pins: 1 VCC (power), 2 CLK1 (in), 3 IN (in), 4 I/O (io), 5 I/O (io), 6 I/O (io), 7 I/O (io), 8 I/O (io), 9 I/O (io), 10 I/O (io), 11 NC, 12 I/O (io), 13 IN (in), 14 GND (power), 15 GND (power), 16 CLK2 (in), 17 IN (in), 18 I/O (io), 19 NC, 20 I/O (io), 21 I/O (io), 22 I/O (io), 23 I/O (io), 24 I/O (io), 25 I/O (io), 26 I/O (io), 27 IN (in), 28 VCC (power)

## EP610LC-35
designator U?
EP610 5.0V Classic EPLD, 16-Macrocells, 28-Pin PLCC, Speed Grade 35, Commercial Grade; Published: 24-Nov-2000; LatestRevisionDate: 13-Apr-2006; LatestRevisionNote: IPC-7351 Footprint Added.; DatasheetVersion: May-1999; PackageVersion: ver14.2, Oct-2005; PackageReference: PLCC28; Publisher: Altium Limited; PackageDescription: 28-Pin Plastic J-Lead Chip Carrier (PLCC28); Code_JEDEC: MS-018-AB; ComponentLink1Description: Manufacturer Link; ComponentLink1URL: http://www.altera.com/products/devices/classic/cls-index.html; ComponentLink2Description: Datasheet; ComponentLink2URL: http://www.altera.com/literature/ds/classic.pdf
footprint PLCC28_N (Leaded Chip Carrier, 28-Leads, Body 11.5x11.5mm, Pitch 1.27mm, IPC Medium Density)
footprint PLCC28_L (Leaded Chip Carrier, 28-Leads, Body 11.5x11.5mm, Pitch 1.27mm, IPC High Density)
footprint PLCC28_M (Leaded Chip Carrier, 28-Leads, Body 11.5x11.5mm, Pitch 1.27mm, IPC Low Density)
3D model EP610-PLCC28 (28-Pin Plastic J-Lead Chip Carrier (PLCC28))
pins: 1 VCC (power), 2 CLK1 (in), 3 IN (in), 4 I/O (io), 5 I/O (io), 6 I/O (io), 7 I/O (io), 8 I/O (io), 9 I/O (io), 10 I/O (io), 11 NC, 12 I/O (io), 13 IN (in), 14 GND (power), 15 GND (power), 16 CLK2 (in), 17 IN (in), 18 I/O (io), 19 NC, 20 I/O (io), 21 I/O (io), 22 I/O (io), 23 I/O (io), 24 I/O (io), 25 I/O (io), 26 I/O (io), 27 IN (in), 28 VCC (power)

## EP610LI-20T
designator U?
EP610 5.0V Classic EPLD, 16-Macrocells, 28-Pin PLCC, Speed Grade 20, Industrial Grade, Turbo; Published: 24-Nov-2000; LatestRevisionDate: 13-Apr-2006; LatestRevisionNote: IPC-7351 Footprint Added.; DatasheetVersion: Sep-1991; PackageVersion: ver14.2, Oct-2005; PackageReference: PLCC28; Publisher: Altium Limited; PackageDescription: 28-Pin Plastic J-Lead Chip Carrier (PLCC28); Code_JEDEC: MS-018-AB; ComponentLink1Description: Manufacturer Link; ComponentLink1URL: http://www.altera.com/products/devices/classic/cls-index.html; ComponentLink2Description: Datasheet; ComponentLink2URL: http://www.altera.com/literature/ds/classic.pdf
footprint PLCC28_N (Leaded Chip Carrier, 28-Leads, Body 11.5x11.5mm, Pitch 1.27mm, IPC Medium Density)
footprint PLCC28_L (Leaded Chip Carrier, 28-Leads, Body 11.5x11.5mm, Pitch 1.27mm, IPC High Density)
footprint PLCC28_M (Leaded Chip Carrier, 28-Leads, Body 11.5x11.5mm, Pitch 1.27mm, IPC Low Density)
3D model EP610-PLCC28 (28-Pin Plastic J-Lead Chip Carrier (PLCC28))
pins: 1 VCC (power), 2 CLK1 (in), 3 IN (in), 4 I/O (io), 5 I/O (io), 6 I/O (io), 7 I/O (io), 8 I/O (io), 9 I/O (io), 10 I/O (io), 11 NC, 12 I/O (io), 13 IN (in), 14 GND (power), 15 GND (power), 16 CLK2 (in), 17 IN (in), 18 I/O (io), 19 NC, 20 I/O (io), 21 I/O (io), 22 I/O (io), 23 I/O (io), 24 I/O (io), 25 I/O (io), 26 I/O (io), 27 IN (in), 28 VCC (power)

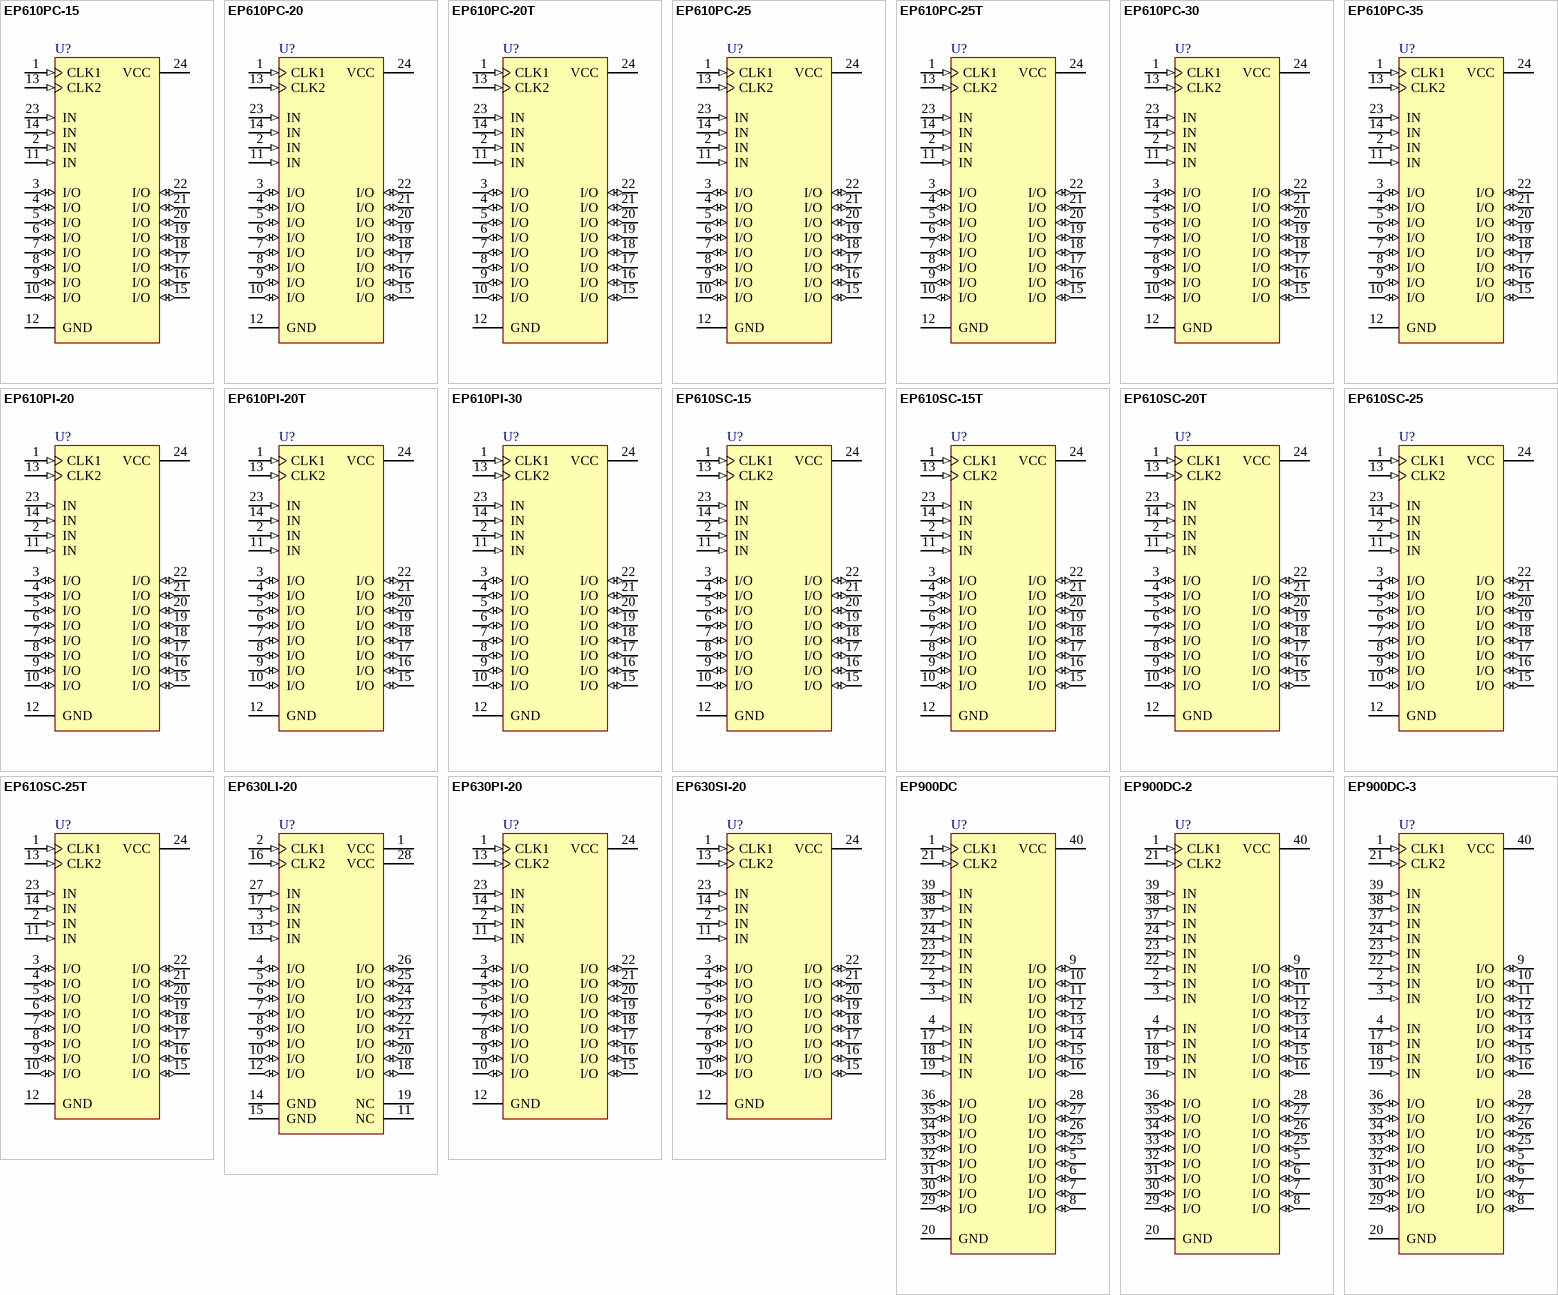
[diagram p1: symbols EP610PC-15 to EP900DC-3]

## EP610PC-15
designator U?
EP610 5.0V Classic EPLD, 16-Macrocells, 24-Pin PDIP, Speed Grade 15, Commercial Grade; Published: 24-Nov-2000; LatestRevisionDate: 04-Mar-2005; LatestRevisionNote: Stylized 3D Model Added.; DatasheetVersion: May-1999; PackageVersion: ver14.2, Oct-2005; PackageReference: PDIP24; Publisher: Altium Limited; PackageDescription: 24-Pin Plastic Dual In-Line Package (PDIP); Code_JEDEC: MS-001-AF; ComponentLink1Description: Manufacturer Link; ComponentLink1URL: http://www.altera.com/products/devices/classic/cls-index.html
footprint PDIP24 (DIP, 24-Leads, Row Spacing 7.62mm, Pitch 2.54mm, Body 30.21x6.54mm)
3D model PDIP24 (24-Pin Plastic Dual In-Line Package (PDIP))
pins: 1 CLK1 (in), 2 IN (in), 3 I/O (io), 4 I/O (io), 5 I/O (io), 6 I/O (io), 7 I/O (io), 8 I/O (io), 9 I/O (io), 10 I/O (io), 11 IN (in), 12 GND (power), 13 CLK2 (in), 14 IN (in), 15 I/O (io), 16 I/O (io), 17 I/O (io), 18 I/O (io), 19 I/O (io), 20 I/O (io), 21 I/O (io), 22 I/O (io), 23 IN (in), 24 VCC (power)

## EP610PC-20
designator U?
EP610 5.0V Classic EPLD, 16-Macrocells, 24-Pin PDIP, Speed Grade 20, Commercial Grade; Published: 24-Nov-2000; LatestRevisionDate: 04-Mar-2005; LatestRevisionNote: Stylized 3D Model Added.; DatasheetVersion: May-1999; PackageVersion: ver14.2, Oct-2005; PackageReference: PDIP24; Publisher: Altium Limited; PackageDescription: 24-Pin Plastic Dual In-Line Package (PDIP); Supplier 1: Farnell; Supplier Part Number 1: 2215354; Code_JEDEC: MS-001-AF; ComponentLink1Description: Manufacturer Link; ComponentLink1URL: http://www.altera.com/products/devices/classic/cls-index.html
footprint PDIP24 (DIP, 24-Leads, Row Spacing 7.62mm, Pitch 2.54mm, Body 30.21x6.54mm)
3D model PDIP24 (24-Pin Plastic Dual In-Line Package (PDIP))
pins: 1 CLK1 (in), 2 IN (in), 3 I/O (io), 4 I/O (io), 5 I/O (io), 6 I/O (io), 7 I/O (io), 8 I/O (io), 9 I/O (io), 10 I/O (io), 11 IN (in), 12 GND (power), 13 CLK2 (in), 14 IN (in), 15 I/O (io), 16 I/O (io), 17 I/O (io), 18 I/O (io), 19 I/O (io), 20 I/O (io), 21 I/O (io), 22 I/O (io), 23 IN (in), 24 VCC (power)

## EP610PC-20T
designator U?
EP610 5.0V Classic EPLD, 16-Macrocells, 24-Pin PDIP, Speed Grade 20, Commercial Grade, Turbo; Published: 24-Nov-2000; LatestRevisionDate: 04-Mar-2005; LatestRevisionNote: Stylized 3D Model Added.; DatasheetVersion: May-1999; PackageVersion: ver14.2, Oct-2005; PackageReference: PDIP24; Publisher: Altium Limited; PackageDescription: 24-Pin Plastic Dual In-Line Package (PDIP); Code_JEDEC: MS-001-AF; ComponentLink1Description: Manufacturer Link; ComponentLink1URL: http://www.altera.com/products/devices/classic/cls-index.html
footprint PDIP24 (DIP, 24-Leads, Row Spacing 7.62mm, Pitch 2.54mm, Body 30.21x6.54mm)
3D model PDIP24 (24-Pin Plastic Dual In-Line Package (PDIP))
pins: 1 CLK1 (in), 2 IN (in), 3 I/O (io), 4 I/O (io), 5 I/O (io), 6 I/O (io), 7 I/O (io), 8 I/O (io), 9 I/O (io), 10 I/O (io), 11 IN (in), 12 GND (power), 13 CLK2 (in), 14 IN (in), 15 I/O (io), 16 I/O (io), 17 I/O (io), 18 I/O (io), 19 I/O (io), 20 I/O (io), 21 I/O (io), 22 I/O (io), 23 IN (in), 24 VCC (power)

## EP610PC-25
designator U?
EP610 5.0V Classic EPLD, 16-Macrocells, 24-Pin PDIP, Speed Grade 25, Commercial Grade; Published: 24-Nov-2000; LatestRevisionDate: 04-Mar-2005; LatestRevisionNote: Stylized 3D Model Added.; DatasheetVersion: May-1999; PackageVersion: ver14.2, Oct-2005; PackageReference: PDIP24; Publisher: Altium Limited; PackageDescription: 24-Pin Plastic Dual In-Line Package (PDIP); Code_JEDEC: MS-001-AF; ComponentLink1Description: Manufacturer Link; ComponentLink1URL: http://www.altera.com/products/devices/classic/cls-index.html
footprint PDIP24 (DIP, 24-Leads, Row Spacing 7.62mm, Pitch 2.54mm, Body 30.21x6.54mm)
3D model PDIP24 (24-Pin Plastic Dual In-Line Package (PDIP))
pins: 1 CLK1 (in), 2 IN (in), 3 I/O (io), 4 I/O (io), 5 I/O (io), 6 I/O (io), 7 I/O (io), 8 I/O (io), 9 I/O (io), 10 I/O (io), 11 IN (in), 12 GND (power), 13 CLK2 (in), 14 IN (in), 15 I/O (io), 16 I/O (io), 17 I/O (io), 18 I/O (io), 19 I/O (io), 20 I/O (io), 21 I/O (io), 22 I/O (io), 23 IN (in), 24 VCC (power)

## EP610PC-25T
designator U?
EP610 5.0V Classic EPLD, 16-Macrocells, 24-Pin PDIP, Speed Grade 25, Commercial Grade, Turbo; Published: 24-Nov-2000; LatestRevisionDate: 04-Mar-2005; LatestRevisionNote: Stylized 3D Model Added.; DatasheetVersion: May-1999; PackageVersion: ver14.2, Oct-2005; PackageReference: PDIP24; Publisher: Altium Limited; PackageDescription: 24-Pin Plastic Dual In-Line Package (PDIP); Code_JEDEC: MS-001-AF; ComponentLink1Description: Manufacturer Link; ComponentLink1URL: http://www.altera.com/products/devices/classic/cls-index.html
footprint PDIP24 (DIP, 24-Leads, Row Spacing 7.62mm, Pitch 2.54mm, Body 30.21x6.54mm)
3D model PDIP24 (24-Pin Plastic Dual In-Line Package (PDIP))
pins: 1 CLK1 (in), 2 IN (in), 3 I/O (io), 4 I/O (io), 5 I/O (io), 6 I/O (io), 7 I/O (io), 8 I/O (io), 9 I/O (io), 10 I/O (io), 11 IN (in), 12 GND (power), 13 CLK2 (in), 14 IN (in), 15 I/O (io), 16 I/O (io), 17 I/O (io), 18 I/O (io), 19 I/O (io), 20 I/O (io), 21 I/O (io), 22 I/O (io), 23 IN (in), 24 VCC (power)

## EP610PC-30
designator U?
EP610 5.0V Classic EPLD, 16-Macrocells, 24-Pin PDIP, Speed Grade 30, Commercial Grade; Published: 24-Nov-2000; LatestRevisionDate: 04-Mar-2005; LatestRevisionNote: Stylized 3D Model Added.; DatasheetVersion: May-1999; PackageVersion: ver14.2, Oct-2005; PackageReference: PDIP24; Publisher: Altium Limited; PackageDescription: 24-Pin Plastic Dual In-Line Package (PDIP); Code_JEDEC: MS-001-AF; ComponentLink1Description: Manufacturer Link; ComponentLink1URL: http://www.altera.com/products/devices/classic/cls-index.html
footprint PDIP24 (DIP, 24-Leads, Row Spacing 7.62mm, Pitch 2.54mm, Body 30.21x6.54mm)
3D model PDIP24 (24-Pin Plastic Dual In-Line Package (PDIP))
pins: 1 CLK1 (in), 2 IN (in), 3 I/O (io), 4 I/O (io), 5 I/O (io), 6 I/O (io), 7 I/O (io), 8 I/O (io), 9 I/O (io), 10 I/O (io), 11 IN (in), 12 GND (power), 13 CLK2 (in), 14 IN (in), 15 I/O (io), 16 I/O (io), 17 I/O (io), 18 I/O (io), 19 I/O (io), 20 I/O (io), 21 I/O (io), 22 I/O (io), 23 IN (in), 24 VCC (power)

## EP610PC-35
designator U?
EP610 5.0V Classic EPLD, 16-Macrocells, 24-Pin PDIP, Speed Grade 35, Commercial Grade; Published: 24-Nov-2000; LatestRevisionDate: 04-Mar-2005; LatestRevisionNote: Stylized 3D Model Added.; DatasheetVersion: May-1999; PackageVersion: ver14.2, Oct-2005; PackageReference: PDIP24; Publisher: Altium Limited; PackageDescription: 24-Pin Plastic Dual In-Line Package (PDIP); Supplier 1: Farnell; Supplier Part Number 1: 2215391; Code_JEDEC: MS-001-AF; ComponentLink1Description: Manufacturer Link; ComponentLink1URL: http://www.altera.com/products/devices/classic/cls-index.html
footprint PDIP24 (DIP, 24-Leads, Row Spacing 7.62mm, Pitch 2.54mm, Body 30.21x6.54mm)
3D model PDIP24 (24-Pin Plastic Dual In-Line Package (PDIP))
pins: 1 CLK1 (in), 2 IN (in), 3 I/O (io), 4 I/O (io), 5 I/O (io), 6 I/O (io), 7 I/O (io), 8 I/O (io), 9 I/O (io), 10 I/O (io), 11 IN (in), 12 GND (power), 13 CLK2 (in), 14 IN (in), 15 I/O (io), 16 I/O (io), 17 I/O (io), 18 I/O (io), 19 I/O (io), 20 I/O (io), 21 I/O (io), 22 I/O (io), 23 IN (in), 24 VCC (power)

## EP610PI-20
designator U?
EP610 5.0V Classic EPLD, 16-Macrocells, 24-Pin PDIP, Speed Grade 20, Industrial Grade; Published: 24-Nov-2000; LatestRevisionDate: 04-Mar-2005; LatestRevisionNote: Stylized 3D Model Added.; DatasheetVersion: Sep-1991; PackageVersion: ver14.2, Oct-2005; PackageReference: PDIP24; Publisher: Altium Limited; PackageDescription: 24-Pin Plastic Dual In-Line Package (PDIP); Code_JEDEC: MS-001-AF; ComponentLink1Description: Manufacturer Link; ComponentLink1URL: http://www.altera.com/products/devices/classic/cls-index.html
footprint PDIP24 (DIP, 24-Leads, Row Spacing 7.62mm, Pitch 2.54mm, Body 30.21x6.54mm)
3D model PDIP24 (24-Pin Plastic Dual In-Line Package (PDIP))
pins: 1 CLK1 (in), 2 IN (in), 3 I/O (io), 4 I/O (io), 5 I/O (io), 6 I/O (io), 7 I/O (io), 8 I/O (io), 9 I/O (io), 10 I/O (io), 11 IN (in), 12 GND (power), 13 CLK2 (in), 14 IN (in), 15 I/O (io), 16 I/O (io), 17 I/O (io), 18 I/O (io), 19 I/O (io), 20 I/O (io), 21 I/O (io), 22 I/O (io), 23 IN (in), 24 VCC (power)

## EP610PI-20T
designator U?
EP610 5.0V Classic EPLD, 16-Macrocells, 24-Pin PDIP, Speed Grade 20, Industrial Grade, Turbo; Published: 24-Nov-2000; LatestRevisionDate: 04-Mar-2005; LatestRevisionNote: Stylized 3D Model Added.; DatasheetVersion: Sep-1991; PackageVersion: ver14.2, Oct-2005; PackageReference: PDIP24; Publisher: Altium Limited; PackageDescription: 24-Pin Plastic Dual In-Line Package (PDIP); Code_JEDEC: MS-001-AF; ComponentLink1Description: Manufacturer Link; ComponentLink1URL: http://www.altera.com/products/devices/classic/cls-index.html
footprint PDIP24 (DIP, 24-Leads, Row Spacing 7.62mm, Pitch 2.54mm, Body 30.21x6.54mm)
3D model PDIP24 (24-Pin Plastic Dual In-Line Package (PDIP))
pins: 1 CLK1 (in), 2 IN (in), 3 I/O (io), 4 I/O (io), 5 I/O (io), 6 I/O (io), 7 I/O (io), 8 I/O (io), 9 I/O (io), 10 I/O (io), 11 IN (in), 12 GND (power), 13 CLK2 (in), 14 IN (in), 15 I/O (io), 16 I/O (io), 17 I/O (io), 18 I/O (io), 19 I/O (io), 20 I/O (io), 21 I/O (io), 22 I/O (io), 23 IN (in), 24 VCC (power)

## EP610PI-30
designator U?
EP610 5.0V Classic EPLD, 16-Macrocells, 24-Pin PDIP, Speed Grade 30, Industrial Grade; Published: 24-Nov-2000; LatestRevisionDate: 04-Mar-2005; LatestRevisionNote: Stylized 3D Model Added.; DatasheetVersion: May-1999; PackageVersion: ver14.2, Oct-2005; PackageReference: PDIP24; Publisher: Altium Limited; PackageDescription: 24-Pin Plastic Dual In-Line Package (PDIP); Code_JEDEC: MS-001-AF; ComponentLink1Description: Manufacturer Link; ComponentLink1URL: http://www.altera.com/products/devices/classic/cls-index.html
footprint PDIP24 (DIP, 24-Leads, Row Spacing 7.62mm, Pitch 2.54mm, Body 30.21x6.54mm)
3D model PDIP24 (24-Pin Plastic Dual In-Line Package (PDIP))
pins: 1 CLK1 (in), 2 IN (in), 3 I/O (io), 4 I/O (io), 5 I/O (io), 6 I/O (io), 7 I/O (io), 8 I/O (io), 9 I/O (io), 10 I/O (io), 11 IN (in), 12 GND (power), 13 CLK2 (in), 14 IN (in), 15 I/O (io), 16 I/O (io), 17 I/O (io), 18 I/O (io), 19 I/O (io), 20 I/O (io), 21 I/O (io), 22 I/O (io), 23 IN (in), 24 VCC (power)

## EP610SC-15
designator U?
EP610 5.0V Classic EPLD, 16-Macrocells, 24-Pin SOIC, Speed Grade 15, Commercial Grade; Published: 24-Nov-2000; LatestRevisionDate: 13-Apr-2006; LatestRevisionNote: IPC-7351 Footprint Added.; DatasheetVersion: May-1999; PackageVersion: ver14.2, Oct-2005; PackageReference: SOIC24; Publisher: Altium Limited; PackageDescription: 24-Pin Small Outline Integrated Circuit Package (SOIC24); Code_JEDEC: MS-013-AD; ComponentLink1Description: Manufacturer Link; ComponentLink1URL: http://www.altera.com/products/devices/classic/cls-index.html; ComponentLink2Description: Datasheet; ComponentLink2URL: http://www.altera.com/literature/ds/classic.pdf
footprint SOIC24_N (SOIC, 24-Leads, Body 15.4x7.5mm, Pitch 1.27mm, IPC Medium Density)
footprint SOIC24_L (SOIC, 24-Leads, Body 15.4x7.5mm, Pitch 1.27mm, IPC High Density)
footprint SOIC24_M (SOIC, 24-Leads, Body 15.4x7.5mm, Pitch 1.27mm, IPC Low Density)
3D model SOIC24 (24-Pin Small Outline Integrated Circuit Package (SOIC24))
pins: 1 CLK1 (in), 2 IN (in), 3 I/O (io), 4 I/O (io), 5 I/O (io), 6 I/O (io), 7 I/O (io), 8 I/O (io), 9 I/O (io), 10 I/O (io), 11 IN (in), 12 GND (power), 13 CLK2 (in), 14 IN (in), 15 I/O (io), 16 I/O (io), 17 I/O (io), 18 I/O (io), 19 I/O (io), 20 I/O (io), 21 I/O (io), 22 I/O (io), 23 IN (in), 24 VCC (power)

## EP610SC-15T
designator U?
EP610 5.0V Classic EPLD, 16-Macrocells, 24-Pin SOIC, Speed Grade 15, Commercial Grade, Turbo; Published: 24-Nov-2000; LatestRevisionDate: 13-Apr-2006; LatestRevisionNote: IPC-7351 Footprint Added.; DatasheetVersion: Mar-1995; PackageVersion: ver14.2, Oct-2005; PackageReference: SOIC24; Publisher: Altium Limited; PackageDescription: 24-Pin Small Outline Integrated Circuit Package (SOIC24); Code_JEDEC: MS-013-AD; ComponentLink1Description: Manufacturer Link; ComponentLink1URL: http://www.altera.com/products/devices/classic/cls-index.html; ComponentLink2Description: Datasheet; ComponentLink2URL: http://www.altera.com/literature/ds/classic.pdf
footprint SOIC24_N (SOIC, 24-Leads, Body 15.4x7.5mm, Pitch 1.27mm, IPC Medium Density)
footprint SOIC24_L (SOIC, 24-Leads, Body 15.4x7.5mm, Pitch 1.27mm, IPC High Density)
footprint SOIC24_M (SOIC, 24-Leads, Body 15.4x7.5mm, Pitch 1.27mm, IPC Low Density)
3D model SOIC24 (24-Pin Small Outline Integrated Circuit Package (SOIC24))
pins: 1 CLK1 (in), 2 IN (in), 3 I/O (io), 4 I/O (io), 5 I/O (io), 6 I/O (io), 7 I/O (io), 8 I/O (io), 9 I/O (io), 10 I/O (io), 11 IN (in), 12 GND (power), 13 CLK2 (in), 14 IN (in), 15 I/O (io), 16 I/O (io), 17 I/O (io), 18 I/O (io), 19 I/O (io), 20 I/O (io), 21 I/O (io), 22 I/O (io), 23 IN (in), 24 VCC (power)

## EP610SC-20T
designator U?
EP610 5.0V Classic EPLD, 16-Macrocells, 24-Pin SOIC, Speed Grade 20, Commercial Grade, Turbo; Published: 24-Nov-2000; LatestRevisionDate: 13-Apr-2006; LatestRevisionNote: IPC-7351 Footprint Added.; DatasheetVersion: Mar-1995; PackageVersion: ver14.2, Oct-2005; PackageReference: SOIC24; Publisher: Altium Limited; PackageDescription: 24-Pin Small Outline Integrated Circuit Package (SOIC24); Code_JEDEC: MS-013-AD; ComponentLink1Description: Manufacturer Link; ComponentLink1URL: http://www.altera.com/products/devices/classic/cls-index.html; ComponentLink2Description: Datasheet; ComponentLink2URL: http://www.altera.com/literature/ds/classic.pdf
footprint SOIC24_N (SOIC, 24-Leads, Body 15.4x7.5mm, Pitch 1.27mm, IPC Medium Density)
footprint SOIC24_L (SOIC, 24-Leads, Body 15.4x7.5mm, Pitch 1.27mm, IPC High Density)
footprint SOIC24_M (SOIC, 24-Leads, Body 15.4x7.5mm, Pitch 1.27mm, IPC Low Density)
3D model SOIC24 (24-Pin Small Outline Integrated Circuit Package (SOIC24))
pins: 1 CLK1 (in), 2 IN (in), 3 I/O (io), 4 I/O (io), 5 I/O (io), 6 I/O (io), 7 I/O (io), 8 I/O (io), 9 I/O (io), 10 I/O (io), 11 IN (in), 12 GND (power), 13 CLK2 (in), 14 IN (in), 15 I/O (io), 16 I/O (io), 17 I/O (io), 18 I/O (io), 19 I/O (io), 20 I/O (io), 21 I/O (io), 22 I/O (io), 23 IN (in), 24 VCC (power)

## EP610SC-25
designator U?
EP610 5.0V Classic EPLD, 16-Macrocells, 24-Pin SOIC, Speed Grade 25, Commercial Grade; Published: 24-Nov-2000; LatestRevisionDate: 13-Apr-2006; LatestRevisionNote: IPC-7351 Footprint Added.; DatasheetVersion: May-1999; PackageVersion: ver14.2, Oct-2005; PackageReference: SOIC24; Publisher: Altium Limited; PackageDescription: 24-Pin Small Outline Integrated Circuit Package (SOIC24); Code_JEDEC: MS-013-AD; ComponentLink1Description: Manufacturer Link; ComponentLink1URL: http://www.altera.com/products/devices/classic/cls-index.html; ComponentLink2Description: Datasheet; ComponentLink2URL: http://www.altera.com/literature/ds/classic.pdf
footprint SOIC24_N (SOIC, 24-Leads, Body 15.4x7.5mm, Pitch 1.27mm, IPC Medium Density)
footprint SOIC24_L (SOIC, 24-Leads, Body 15.4x7.5mm, Pitch 1.27mm, IPC High Density)
footprint SOIC24_M (SOIC, 24-Leads, Body 15.4x7.5mm, Pitch 1.27mm, IPC Low Density)
3D model SOIC24 (24-Pin Small Outline Integrated Circuit Package (SOIC24))
pins: 1 CLK1 (in), 2 IN (in), 3 I/O (io), 4 I/O (io), 5 I/O (io), 6 I/O (io), 7 I/O (io), 8 I/O (io), 9 I/O (io), 10 I/O (io), 11 IN (in), 12 GND (power), 13 CLK2 (in), 14 IN (in), 15 I/O (io), 16 I/O (io), 17 I/O (io), 18 I/O (io), 19 I/O (io), 20 I/O (io), 21 I/O (io), 22 I/O (io), 23 IN (in), 24 VCC (power)